# Altium schematic symbol library Components - 04.11.21 - 18.12.SchLib: 1 symbol
Pins are listed as number, name and electrical type; pins without a type are passive.

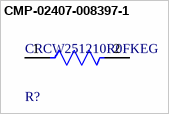
[diagram p0: symbol CMP-02407-008397-1]

## CMP-02407-008397-1
designator R?, comment CRCW251210R0FKEG
RES Thick Film, 10Ω, 1%, 1W, 100ppm/°C, 2512; Voltage Rating: 500V; Resistance: 10R; Depth: 3.15mm; Contact Plating: Tin; Min Operating Temperature: -55°C; Composition: Thick Film; Case/Package: 2512; Packaging: Tape and Reel; Max Operating Temperature: 155°C; Lead Free: Lead Free; Radiation Hardening: No; Power Rating: 1W; Termination: SMD/SMT; Features: Automotive AEC-Q200; Number of Pins: 2; Number of Terminations: 2; Weight: 0.001429oz; Package Quantity: 10; Tolerance: 1%; Military Standard: Not; Mount: Surface Mount; Width: 3.15mm; Temperature Coefficient: 100ppm/°C; Length: 6.3mm; Case Code (Imperial): 2512; Height: 0.6mm; Voltage Rating (DC): 500V; Case Code (Metric): 6432; Max Power Dissipation: 1W
footprint FP-CRCW2512-e3-IPC_A
footprint FP-CRCW2512-e3-MFG
footprint FP-CRCW2512-e3-IPC_B
footprint FP-CRCW2512-e3-IPC_C
pins: 1, 2